# Altium integrated library USB3140-30-0170-1-C_REVE1.IntLib: 1 symbol
Pins are listed as number, name and electrical type; pins without a type are passive.

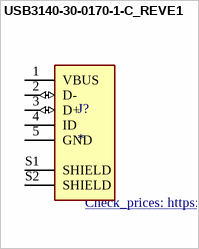
[diagram p0: symbol USB3140-30-0170-1-C_REVE1]

## USB3140-30-0170-1-C_REVE1
designator J?
USB - micro B USB 2.0 Receptacle Connector 5 Position Surface Mount, Through Hole; MP: USB3140-30-0170-1-C; MF: Global Connector Technology; SnapEDA_Link: https://www.snapeda.com/parts/USB3140-30-0170-1-C/Global%20Connector%20Technology/view-part/222535/?ref=snap; Availability: Warning; DigiKey-Purchase-URL: https://snapeda.com/shop?store=DigiKey&id=222535; Package: None; Price: None; Value: *; Check_prices: https://www.snapeda.com/parts/USB3140-30-0170-1-C/Global%20Connector%20Technology/view-part/222535/?ref=eda
footprint GCT_USB3140-30-0170-1-C_REVE1
pins: 1 VBUS (power), 2 D- (io), 3 D+ (io), 4 ID, 5 GND (power), S1 SHIELD, S2 SHIELD